# Altium schematic symbol library SCH_Active.SchLib: 23 symbols
Pins are listed as number, name and electrical type; pins without a type are passive.

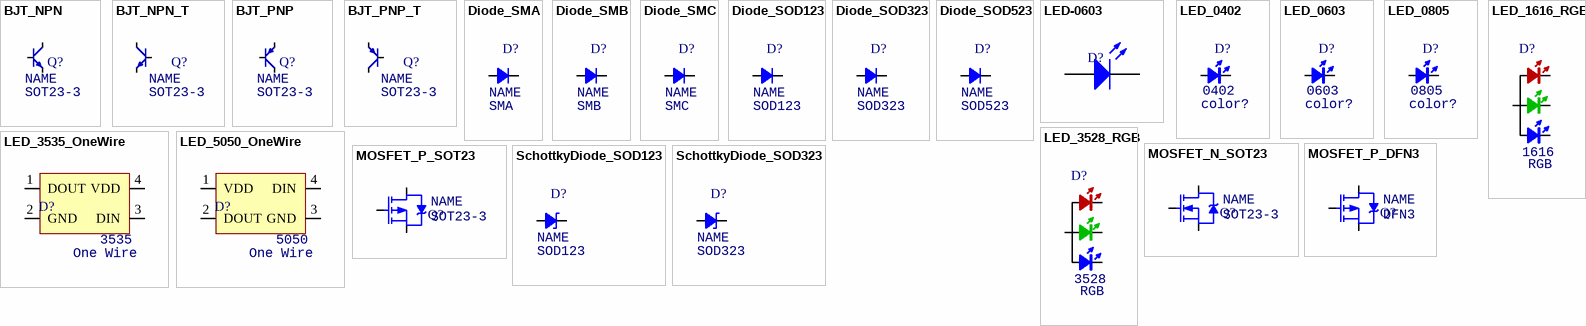
[diagram p0: symbols BJT_NPN to SchottkyDiode_SOD323]

## BJT_NPN
designator Q?, comment Type: SOT23-3  (hidden comment: NAME)
Transistor; Note: NPN; Manufacturer: *; Specification: *; Link: *; Value: NAME
footprint SOT23-3
pins: 1 B, 2 E, 3 C

## BJT_NPN_T
designator Q?, comment Type: SOT23-3  (hidden comment: NAME)
Transistor; Note: NPN; Manufacturer: *; Specification: *; Link: *; Value: NAME
footprint SOT23-3
pins: 1 B, 2 E, 3 C

## BJT_PNP
designator Q?, comment Type: SOT23-3  (hidden comment: NAME)
Transistor; Note: PNP; Manufacturer: *; Specification: *; Link: *; Value: NAME
footprint SOT23-3
pins: 1 B, 2 E, 3 C

## BJT_PNP_T
designator Q?, comment Type: SOT23-3  (hidden comment: NAME)
Transistor; Note: PNP; Manufacturer: *; Specification: *; Link: *; Value: NAME
footprint SOT23-3
pins: 1 B, 2 E, 3 C

## Diode_SMA
designator D?, comment Type: SMA  (hidden comment: NAME)
Diode; Manufacturer: *; Specification: *; Note: *; Link: *; Value: NAME
footprint DO-214AC (SMA)
pins: 1 ANODE, 2 CATHODE

## Diode_SMB
designator D?, comment Type: SMB  (hidden comment: NAME)
Diode; Manufacturer: *; Specification: *; Note: *; Link: *; Value: NAME
footprint DO-214AA (SMB)
pins: 1 ANODE, 2 CATHODE

## Diode_SMC
designator D?, comment Type: SMC  (hidden comment: NAME)
Diode; Manufacturer: *; Specification: *; Note: *; Link: *; Value: NAME
footprint DO-214AB (SMC)
pins: 1 ANODE, 2 CATHODE

## Diode_SOD123
designator D?, comment Type: SOD123  (hidden comment: NAME)
Diode; Manufacturer: *; Specification: *; Note: *; Link: *; Value: NAME
footprint SOD-123
pins: 1 ANODE, 2 CATHODE

## Diode_SOD323
designator D?, comment Type: SOD323  (hidden comment: NAME)
Diode; Manufacturer: *; Specification: *; Note: *; Link: *; Value: NAME
footprint SOD-323
pins: 1 ANODE, 2 CATHODE

## Diode_SOD523
designator D?, comment Type: SOD523  (hidden comment: NAME)
Diode; Manufacturer: *; Specification: *; Note: *; Link: *; Value: NAME
footprint SOD-523
pins: 1 ANODE, 2 CATHODE

## LED-0603
designator D?
发光二极管; ComponentLink1Description: 供应商链接; ComponentLink1URL: http://www.szlcsc.com/product/details_73150.html; Package: 0603; Supplier: LC; SuppliersPartNumber: C72041
footprint 0603_LED
pins: A, K

## LED_0402
designator D?, comment value color?  Type: 0402  (hidden comment: D0402)
LED; Manufacturer: *; Specification: *; Note: *; Link: *
footprint LED_0402_RED
footprint LED_0402_BLUE
footprint LED_0402_ORANGE
footprint LED_0402_YELLOW
footprint LED_0402_GREEN
pins: 1 ANODE, 2 CATHODE

## LED_0603
designator D?, comment value color?  Type: 0603  (hidden comment: D0603)
LED; Manufacturer: *; Specification: *; Note: *; Link: *
footprint 0603_LED
pins: 1 ANODE, 2 CATHODE

## LED_0805
designator D?, comment value color?  Type: 0805  (hidden comment: D0805)
LED; Manufacturer: *; Specification: *; Note: *; Link: *
footprint LED_0805_GREEN
footprint LED_0805_BLUE
footprint LED_0805_RED
footprint LED_0805_ORANGE
footprint LED_0805_YELLOW
pins: 1 ANODE, 2 CATHODE

## LED_1616_RGB
designator D?, comment value RGB  Type: 1616  (hidden comment: D1616)
LED; Manufacturer: *; Specification: *; Note: *; Link: *
footprint LED_1616_RGB
pins: 1 CATHODE, 2 CATHODE, 3 ANODE, 4 CATHODE

## LED_3528_RGB
designator D?, comment value RGB  Type: 3528  (hidden comment: D3528)
LED; Manufacturer: *; Specification: *; Note: *; Link: *
footprint LED_3528_RGB
pins: 1 R, 2 G, 3 B, 4 A

## LED_3535_OneWire
designator D?, comment value One Wire  Type: 3535  (hidden comment: D3535)
One Wire LED; Manufacturer: *; Specification: *; Note: *; Link: *
footprint LED_3535_4P
pins: 1 DOUT, 2 GND, 3 DIN, 4 VDD

## LED_5050_OneWire
designator D?, comment value One Wire  Type: 5050  (hidden comment: D5050)
One Wire LED; Note: WS2812B; Manufacturer: *; Specification: *; Link: *
footprint LED_5050_4P
pins: 1 VDD, 2 DOUT, 3 GND, 4 DIN

## MOSFET_N_SOT23
designator Q?, comment Type: SOT23-3  (hidden comment: NAME)
MOSFET; Note: NMOS; Manufacturer: *; Specification: *; Link: *; Value: NAME
footprint SOT23-3
pins: 1 G, 2 S, 3 D

## MOSFET_P_DFN3
designator Q?, comment Type: DFN3  (hidden comment: NAME)
MOSFET; Note: PMOS; Manufacturer: *; Specification: *; Link: *; Value: NAME
footprint DFN3_1.5x2.0
pins: D, G, S

## MOSFET_P_SOT23
designator Q?, comment Type: SOT23-3  (hidden comment: NAME)
MOSFET; Note: PMOS; Manufacturer: *; Specification: *; Link: *; Value: NAME
footprint SOT23-3
pins: 1 G, 2 S, 3 D

## SchottkyDiode_SOD123
designator D?, comment Type: SOD123  (hidden comment: NAME)
Schottky Diode; Manufacturer: *; Specification: *; Note: *; Link: *; Value: NAME
footprint SOD-123
pins: 1 ANODE, 2 CATHODE

## SchottkyDiode_SOD323
designator D?, comment Type: SOD323  (hidden comment: NAME)
Schottky Diode; Manufacturer: *; Specification: *; Note: *; Link: *; Value: NAME
footprint SOD-323
pins: 1 ANODE, 2 CATHODE